# EAGLE library part BME680 (library custom)
Integrated Environmental Unit
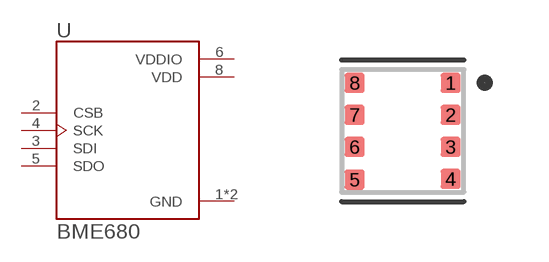
[diagram p7: symbol with the pads of PSON80P300X300X100-8N; footprint PSON80P300X300X100-8N]

Designator prefix U

## BME680 (AVAILABILITY: Unavailable; DESCRIPTION: Integrated Environmental Unit; MF: Bosch Sensortec; MP: BME680; PACKAGE: LGA-8 Bosch Tools; PRICE: None)  [PSON80P300X300X100-8N]
1  GND  pwr
2  CSB  in
3  SDI
4  SCK  in
5  SDO
6  VDDIO  pwr
7  GND  pwr
8  VDD  pwr

## Footprint PSON80P300X300X100-8N (pad centres in mm)
smd 0.5 x 0.5: 1 1.2,1.2; 2 1.2,0.4; 3 1.2,-0.4; 4 1.2,-1.2; 5 -1.2,-1.22; 6 -1.2,-0.4; 7 -1.2,0.4; 8 -1.2,1.2